# Altium schematic symbol library GENERIC_RELAY_SPDT.Schlib: 1 symbol
Pins are listed as number, name and electrical type; pins without a type are passive.

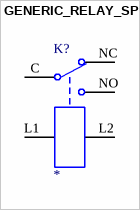
[diagram p0: symbol GENERIC_RELAY_SPDT]

## GENERIC_RELAY_SPDT
designator K?
pins: C, L1, L2, NC, NO